# EAGLE library part MICRO-SD (library micro_sd)
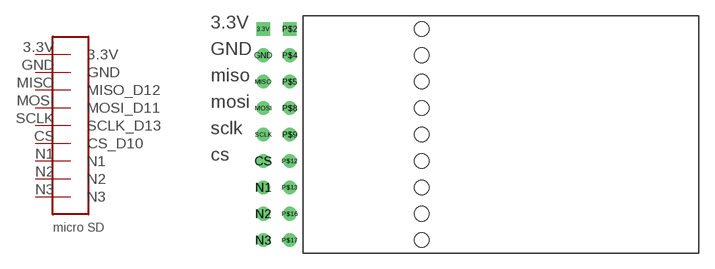
[diagram p0: symbol with the pads of MICRO-SD; footprint MICRO-SD]

Designator prefix -

## MICRO-SD  [MICRO-SD]
3.3V  3.3V
CS  CS_D10
GND  GND
MISO  MISO_D12
MOSI  MOSI_D11
N1  N1
N2  N2
N3  N3
SCLK  SCLK_D13

## Footprint MICRO-SD (pad centres in mm)
drill 0.8 square: 3.3V -30.48,12.7; P$2 -27.94,12.7
drill 0.8: CS -30.48,0; GND -30.48,10.16; MISO -30.48,7.62; MOSI -30.48,5.08; N1 -30.48,-2.54; N2 -30.48,-5.08; N3 -30.48,-7.62; P$4 -27.94,10.16; P$5 -27.94,7.62; P$8 -27.94,5.08; P$9 -27.94,2.54; P$12 -27.94,0; P$13 -27.94,-2.54; P$16 -27.94,-5.08; P$17 -27.94,-7.62; SCLK -30.48,2.54
hole 1.4 at -15.24,12.7
hole 1.4 at -15.24,10.16
hole 1.4 at -15.24,7.62
hole 1.4 at -15.24,5.08
hole 1.4 at -15.24,2.54
hole 1.4 at -15.24,0
hole 1.4 at -15.24,-2.54
hole 1.4 at -15.24,-5.08
hole 1.4 at -15.24,-7.62